# Altium integrated library TI_Logic_Flip-Flop,Latch,Register.IntLib: 2598 symbols (part 6 of 122)
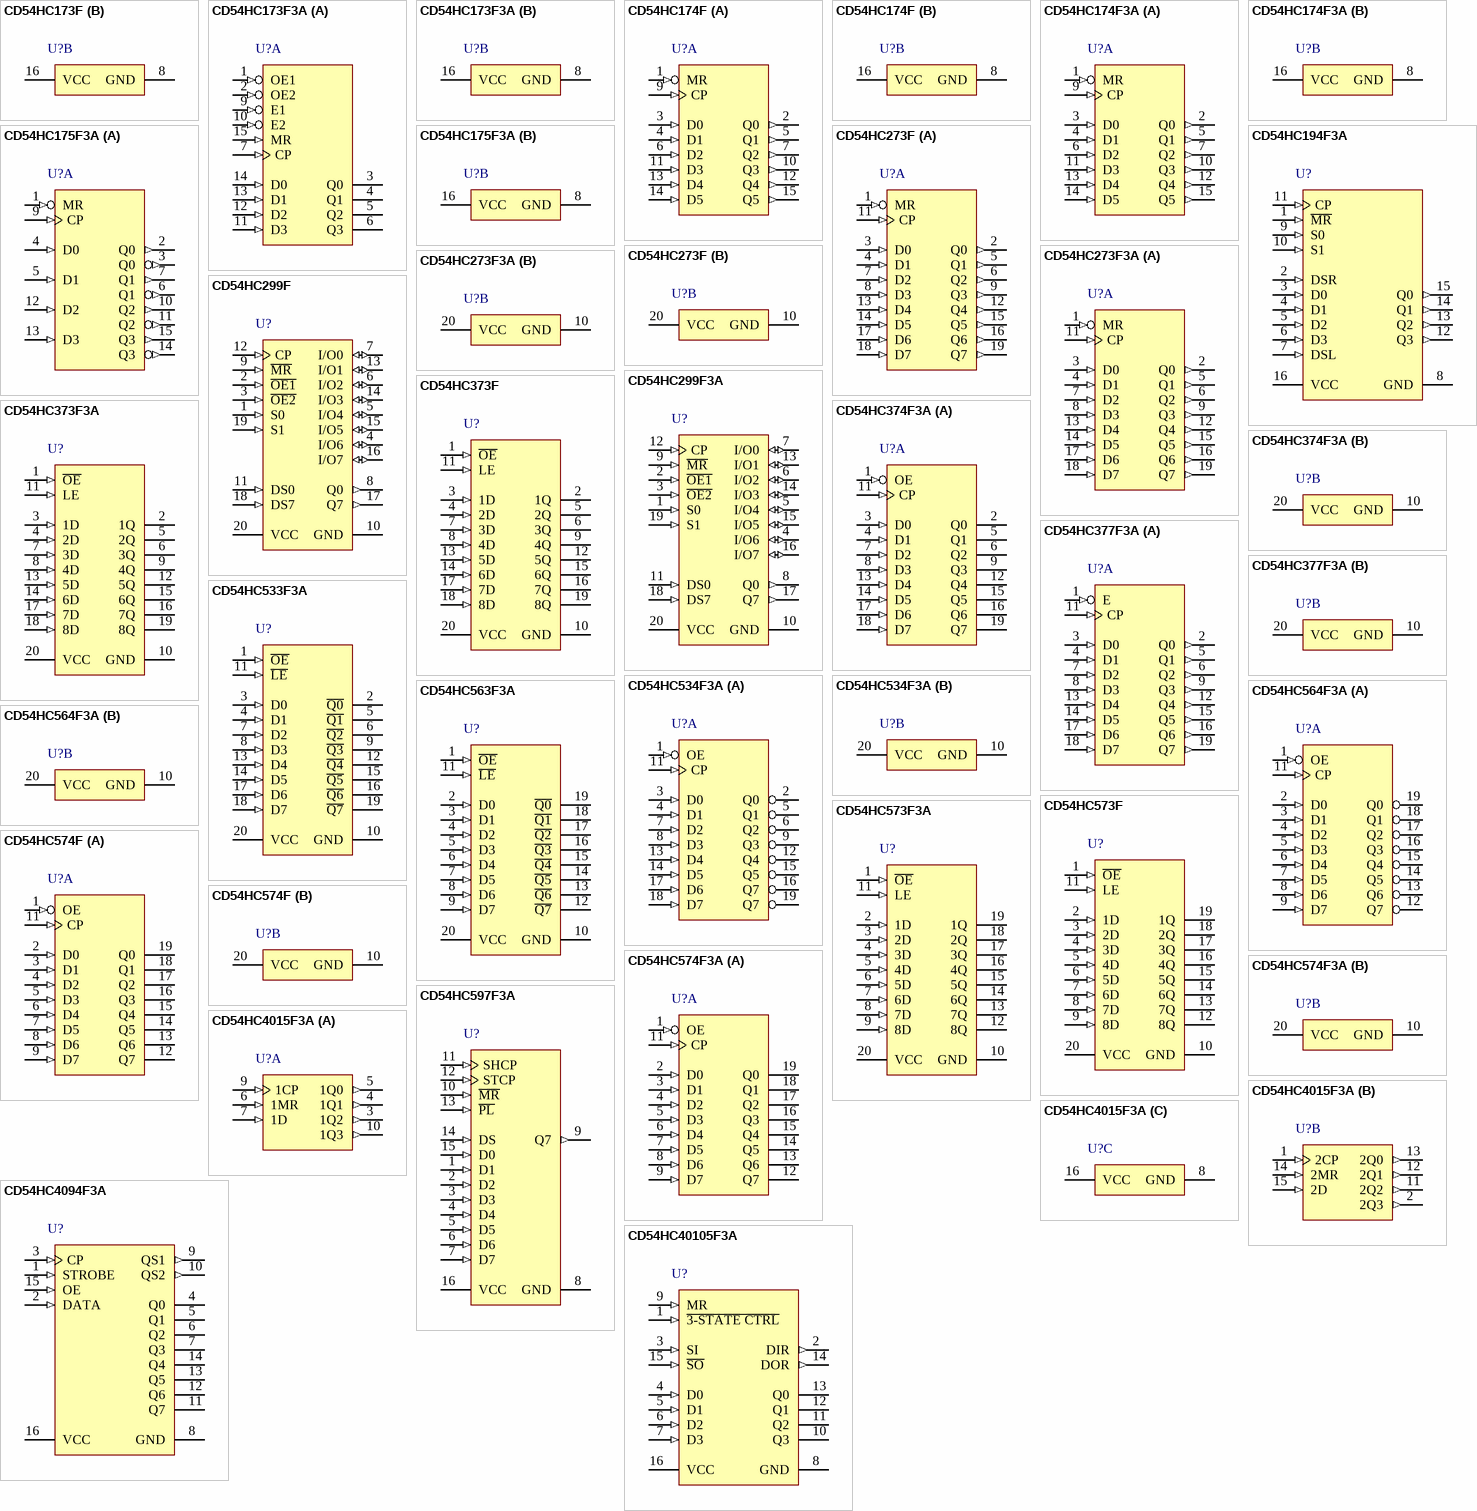
[diagram p144: symbols CD54HC173F to CD54HC40105F3A]

## CD54HC173F
designator U?
High Speed CMOS Logic Quad D-Type Flip-Flops with 3-State Outputs, J0016A, TUBE; Generic Part Number: CD54HC173; Manufacturer: Texas Instruments; PartNumber: CD54HC173F; VCC(Min)(V): 2; VCC(Max)(V): 6; ICC @ Nom Voltage(Max)(mA): 0.08; Bits(#): 4; F @ Nom Voltage(Max)(Mhz): 28; Rating: Military; Technology Family: HC; Schmitt Trigger: No; Output Drive (IOL/IOH)(Max)(mA): 7.8/-7.8; Output Logic: Non-inverted; 3-State Output: Yes; tpd @ Nom Voltage(Max)(ns): 43; DatasheetVersion: SCHS158E; PackageReference: J0016A; Output Type: CMOS; Input Type: CMOS; Operating Temperature Range(C): -55 to 125; ComponentLink1Description: Manufacturer URL; ComponentLink1URL: http://www.ti.com/; ComponentLink2Description: Datasheet; ComponentLink2URL: http://www.ti.com/lit/ds/symlink/cd54hc173.pdf; ComponentLink3Description: Package Specification; ComponentLink3URL: http://www.ti.com/lit/ml/mcer002d/mcer002d.pdf
footprint J0016A (DIP, 16-Leads, Body 21.35x7.2mm, Pitch 2.54mm)
part A pins: 1 OE1 (in), 2 OE2 (in), 3 Q0 (hiz), 4 Q1 (hiz), 5 Q2 (hiz), 6 Q3 (hiz), 7 CP (in), 9 E1 (in), 10 E2 (in), 11 D3 (in), 12 D2 (in), 13 D1 (in), 14 D0 (in), 15 MR (in)
part B pins: 8 GND (power), 16 VCC (power)

## CD54HC173F3A
designator U?
High Speed CMOS Logic Quad D-Type Flip-Flops with 3-State Outputs, J0016A, TUBE; Generic Part Number: CD54HC173; Manufacturer: Texas Instruments; PartNumber: CD54HC173F3A; VCC(Min)(V): 2; VCC(Max)(V): 6; ICC @ Nom Voltage(Max)(mA): 0.08; Bits(#): 4; F @ Nom Voltage(Max)(Mhz): 28; Rating: Military; Technology Family: HC; Schmitt Trigger: No; Output Drive (IOL/IOH)(Max)(mA): 7.8/-7.8; Output Logic: Non-inverted; 3-State Output: Yes; tpd @ Nom Voltage(Max)(ns): 43; DatasheetVersion: SCHS158E; PackageReference: J0016A; Output Type: CMOS; Input Type: CMOS; Operating Temperature Range(C): -55 to 125; ComponentLink1Description: Manufacturer URL; ComponentLink1URL: http://www.ti.com/; ComponentLink2Description: Datasheet; ComponentLink2URL: http://www.ti.com/lit/ds/symlink/cd54hc173.pdf; ComponentLink3Description: Package Specification; ComponentLink3URL: http://www.ti.com/lit/ml/mcer002d/mcer002d.pdf
footprint J0016A (DIP, 16-Leads, Body 21.35x7.2mm, Pitch 2.54mm)
part A pins: 1 OE1 (in), 2 OE2 (in), 3 Q0 (hiz), 4 Q1 (hiz), 5 Q2 (hiz), 6 Q3 (hiz), 7 CP (in), 9 E1 (in), 10 E2 (in), 11 D3 (in), 12 D2 (in), 13 D1 (in), 14 D0 (in), 15 MR (in)
part B pins: 8 GND (power), 16 VCC (power)

## CD54HC174F
designator U?
High Speed CMOS Logic Hex D-Type Flip-Flops with Reset, J0016A, TUBE; Generic Part Number: CD54HC174; Manufacturer: Texas Instruments; PartNumber: CD54HC174F; VCC(Min)(V): 2; VCC(Max)(V): 6; ICC @ Nom Voltage(Max)(mA): 0.08; F @ Nom Voltage(Max)(Mhz): 28; Rating: Military; Technology Family: HC; Schmitt Trigger: No; Output Drive (IOL/IOH)(Max)(mA): 5.2/-5.2; Output Logic: Non-inverted; tpd @ Nom Voltage(Max)(ns): 35; DatasheetVersion: SCHS159C; PackageReference: J0016A; Output Type: CMOS; Input Type: CMOS; Bits(#): 6; Operating Temperature Range(C): -55 to 125; 3-State Output: No; ComponentLink1Description: Manufacturer URL; ComponentLink1URL: http://www.ti.com/; ComponentLink2Description: Datasheet; ComponentLink2URL: http://www.ti.com/lit/ds/symlink/cd54hc174.pdf; ComponentLink3Description: Package Specification; ComponentLink3URL: http://www.ti.com/lit/ml/mcer002d/mcer002d.pdf
footprint J0016A (DIP, 16-Leads, Body 21.35x7.2mm, Pitch 2.54mm)
part A pins: 1 MR (in), 2 Q0 (out), 3 D0 (in), 4 D1 (in), 5 Q1 (out), 6 D2 (in), 7 Q2 (out), 9 CP (in), 10 Q3 (out), 11 D3 (in), 12 Q4 (out), 13 D4 (in), 14 D5 (in), 15 Q5 (out)
part B pins: 8 GND (power), 16 VCC (power)

## CD54HC174F3A
designator U?
High Speed CMOS Logic Hex D-Type Flip-Flops with Reset, J0016A, TUBE; Generic Part Number: CD54HC174; Manufacturer: Texas Instruments; PartNumber: CD54HC174F3A; VCC(Min)(V): 2; VCC(Max)(V): 6; ICC @ Nom Voltage(Max)(mA): 0.08; F @ Nom Voltage(Max)(Mhz): 28; Rating: Military; Technology Family: HC; Schmitt Trigger: No; Output Drive (IOL/IOH)(Max)(mA): 5.2/-5.2; Output Logic: Non-inverted; tpd @ Nom Voltage(Max)(ns): 35; DatasheetVersion: SCHS159C; PackageReference: J0016A; Output Type: CMOS; Input Type: CMOS; Bits(#): 6; Operating Temperature Range(C): -55 to 125; 3-State Output: No; ComponentLink1Description: Manufacturer URL; ComponentLink1URL: http://www.ti.com/; ComponentLink2Description: Datasheet; ComponentLink2URL: http://www.ti.com/lit/ds/symlink/cd54hc174.pdf; ComponentLink3Description: Package Specification; ComponentLink3URL: http://www.ti.com/lit/ml/mcer002d/mcer002d.pdf
footprint J0016A (DIP, 16-Leads, Body 21.35x7.2mm, Pitch 2.54mm)
part A pins: 1 MR (in), 2 Q0 (out), 3 D0 (in), 4 D1 (in), 5 Q1 (out), 6 D2 (in), 7 Q2 (out), 9 CP (in), 10 Q3 (out), 11 D3 (in), 12 Q4 (out), 13 D4 (in), 14 D5 (in), 15 Q5 (out)
part B pins: 8 GND (power), 16 VCC (power)

## CD54HC175F3A
designator U?
High Speed CMOS Logic Quad D-Type Flip-Flops with Reset, J0016A, TUBE; Generic Part Number: CD54HC175; Manufacturer: Texas Instruments; PartNumber: CD54HC175F3A; VCC(Min)(V): 2; VCC(Max)(V): 6; ICC @ Nom Voltage(Max)(mA): 0.08; Bits(#): 4; F @ Nom Voltage(Max)(Mhz): 28; Rating: Military; Technology Family: HC; Schmitt Trigger: No; Output Drive (IOL/IOH)(Max)(mA): 5.2/-5.2; Output Logic: Inverted,Non-inverted; tpd @ Nom Voltage(Max)(ns): 37; DatasheetVersion: SCHS160C; PackageReference: J0016A; Output Type: CMOS; Input Type: CMOS; Operating Temperature Range(C): -55 to 125; 3-State Output: No; ComponentLink1Description: Manufacturer URL; ComponentLink1URL: http://www.ti.com/; ComponentLink2Description: Datasheet; ComponentLink2URL: http://www.ti.com/lit/ds/symlink/cd54hc175.pdf; ComponentLink3Description: Package Specification; ComponentLink3URL: http://www.ti.com/lit/ml/mcer002d/mcer002d.pdf
footprint J0016A (DIP, 16-Leads, Body 21.35x7.2mm, Pitch 2.54mm)
part A pins: 1 MR (in), 2 Q0 (out), 3 Q0 (out), 4 D0 (in), 5 D1 (in), 6 Q1 (out), 7 Q1 (out), 9 CP (in), 10 Q2 (out), 11 Q2 (out), 12 D2 (in), 13 D3 (in), 14 Q3 (out), 15 Q3 (out)
part B pins: 8 GND (power), 16 VCC (power)

## CD54HC194F3A
designator U?
High Speed CMOS Logic 4-Bit Bidirectional Universal Shift Register, J0016A, TUBE; Generic Part Number: CD54HC194; Manufacturer: Texas Instruments; PartNumber: CD54HC194F3A; Technology Family: HC; VCC(Min)(V): 2; VCC(Max)(V): 6; F @ Nom Voltage(Max)(Mhz): 28; ICC @ Nom Voltage(Max)(mA): 0.08; tpd @ Nom Voltage(Max)(ns): 37; Output Drive (IOL/IOH)(Max)(mA): 5.2/-5.2; 3-State Output: No; Rating: Military; DatasheetVersion: SCHS164G; PackageReference: J0016A; Voltage(Nom)(V): 6; Input Type: CMOS; Output Type: CMOS; Operating Temperature Range(C): -55 to 125; ComponentLink1Description: Manufacturer URL; ComponentLink1URL: http://www.ti.com/; ComponentLink2Description: Datasheet; ComponentLink2URL: http://www.ti.com/lit/ds/symlink/cd54hc194.pdf; ComponentLink3Description: Package Specification; ComponentLink3URL: http://www.ti.com/lit/ml/mcer002d/mcer002d.pdf
footprint J0016A (DIP, 16-Leads, Body 21.35x7.2mm, Pitch 2.54mm)
pins: 1 ~{MR} (in), 2 DSR (in), 3 D0 (in), 4 D1 (in), 5 D2 (in), 6 D3 (in), 7 DSL (in), 8 GND (power), 9 S0 (in), 10 S1 (in), 11 CP (in), 12 Q3 (out), 13 Q2 (out), 14 Q1 (out), 15 Q0 (out), 16 VCC (power)

## CD54HC273F
designator U?
High Speed CMOS Logic Octal D-Type Flip-Flops with Reset, J0020A, TUBE; Generic Part Number: CD54HC273; Manufacturer: Texas Instruments; PartNumber: CD54HC273F; VCC(Min)(V): 2; VCC(Max)(V): 6; ICC @ Nom Voltage(Max)(mA): 0.08; Bits(#): 8; F @ Nom Voltage(Max)(Mhz): 28; Rating: Military; Technology Family: HC; Schmitt Trigger: No; Output Drive (IOL/IOH)(Max)(mA): 5.2/-5.2; Output Logic: Non-inverted; tpd @ Nom Voltage(Max)(ns): 30; DatasheetVersion: SCHS174B; PackageReference: J0020A; Output Type: CMOS; Input Type: CMOS; Operating Temperature Range(C): -55 to 125; 3-State Output: No; ComponentLink1Description: Manufacturer URL; ComponentLink1URL: http://www.ti.com/; ComponentLink2Description: Datasheet; ComponentLink2URL: http://www.ti.com/lit/ds/symlink/cd54hc273.pdf; ComponentLink3Description: Package Specification; ComponentLink3URL: http://www.ti.com/lit/ml/mcer002d/mcer002d.pdf
footprint J0020A (DIP, 20-Leads, Body 26.9x7.2mm, Pitch 2.54mm)
part A pins: 1 MR (in), 2 Q0 (out), 3 D0 (in), 4 D1 (in), 5 Q1 (out), 6 Q2 (out), 7 D2 (in), 8 D3 (in), 9 Q3 (out), 11 CP (in), 12 Q4 (out), 13 D4 (in), 14 D5 (in), 15 Q5 (out), 16 Q6 (out), 17 D6 (in), 18 D7 (in), 19 Q7 (out)
part B pins: 10 GND (power), 20 VCC (power)

## CD54HC273F3A
designator U?
High Speed CMOS Logic Octal D-Type Flip-Flops with Reset, J0020A, TUBE; Generic Part Number: CD54HC273; Manufacturer: Texas Instruments; PartNumber: CD54HC273F3A; VCC(Min)(V): 2; VCC(Max)(V): 6; ICC @ Nom Voltage(Max)(mA): 0.08; Bits(#): 8; F @ Nom Voltage(Max)(Mhz): 28; Rating: Military; Technology Family: HC; Schmitt Trigger: No; Output Drive (IOL/IOH)(Max)(mA): 5.2/-5.2; Output Logic: Non-inverted; tpd @ Nom Voltage(Max)(ns): 30; DatasheetVersion: SCHS174B; PackageReference: J0020A; Output Type: CMOS; Input Type: CMOS; Operating Temperature Range(C): -55 to 125; 3-State Output: No; ComponentLink1Description: Manufacturer URL; ComponentLink1URL: http://www.ti.com/; ComponentLink2Description: Datasheet; ComponentLink2URL: http://www.ti.com/lit/ds/symlink/cd54hc273.pdf; ComponentLink3Description: Package Specification; ComponentLink3URL: http://www.ti.com/lit/ml/mcer002d/mcer002d.pdf
footprint J0020A (DIP, 20-Leads, Body 26.9x7.2mm, Pitch 2.54mm)
part A pins: 1 MR (in), 2 Q0 (out), 3 D0 (in), 4 D1 (in), 5 Q1 (out), 6 Q2 (out), 7 D2 (in), 8 D3 (in), 9 Q3 (out), 11 CP (in), 12 Q4 (out), 13 D4 (in), 14 D5 (in), 15 Q5 (out), 16 Q6 (out), 17 D6 (in), 18 D7 (in), 19 Q7 (out)
part B pins: 10 GND (power), 20 VCC (power)

## CD54HC299F
designator U?
High Speed CMOS Logic 8-Bit Universal Shift Register with 3-State Outputs, J0020A, TUBE; Generic Part Number: CD54HC299; Manufacturer: Texas Instruments; PartNumber: CD54HC299F; Technology Family: HC; VCC(Min)(V): 2; VCC(Max)(V): 6; F @ Nom Voltage(Max)(Mhz): 28; ICC @ Nom Voltage(Max)(mA): 0.08; tpd @ Nom Voltage(Max)(ns): 43; Output Drive (IOL/IOH)(Max)(mA): 5.2/-5.2; 3-State Output: No; Rating: Military; DatasheetVersion: SCHS178C; PackageReference: J0020A; Voltage(Nom)(V): 6; Input Type: CMOS; Output Type: CMOS; Operating Temperature Range(C): -55 to 125; ComponentLink1Description: Manufacturer URL; ComponentLink1URL: http://www.ti.com/; ComponentLink2Description: Datasheet; ComponentLink2URL: http://www.ti.com/lit/ds/symlink/cd54hc299.pdf; ComponentLink3Description: Package Specification; ComponentLink3URL: http://www.ti.com/lit/ml/mcer002d/mcer002d.pdf
footprint J0020A (DIP, 20-Leads, Body 26.9x7.2mm, Pitch 2.54mm)
pins: 1 S0 (in), 2 ~{OE1} (in), 3 ~{OE2} (in), 4 I/O6 (io), 5 I/O4 (io), 6 I/O2 (io), 7 I/O0 (io), 8 Q0 (out), 9 ~{MR} (in), 10 GND (power), 11 DS0 (in), 12 CP (in), 13 I/O1 (io), 14 I/O3 (io), 15 I/O5 (io), 16 I/O7 (io), 17 Q7 (out), 18 DS7 (in), 19 S1 (in), 20 VCC (power)

## CD54HC299F3A
designator U?
High Speed CMOS Logic 8-Bit Universal Shift Register with 3-State Outputs, J0020A, TUBE; Generic Part Number: CD54HC299; Manufacturer: Texas Instruments; PartNumber: CD54HC299F3A; Technology Family: HC; VCC(Min)(V): 2; VCC(Max)(V): 6; F @ Nom Voltage(Max)(Mhz): 28; ICC @ Nom Voltage(Max)(mA): 0.08; tpd @ Nom Voltage(Max)(ns): 43; Output Drive (IOL/IOH)(Max)(mA): 5.2/-5.2; 3-State Output: No; Rating: Military; DatasheetVersion: SCHS178C; PackageReference: J0020A; Voltage(Nom)(V): 6; Input Type: CMOS; Output Type: CMOS; Operating Temperature Range(C): -55 to 125; ComponentLink1Description: Manufacturer URL; ComponentLink1URL: http://www.ti.com/; ComponentLink2Description: Datasheet; ComponentLink2URL: http://www.ti.com/lit/ds/symlink/cd54hc299.pdf; ComponentLink3Description: Package Specification; ComponentLink3URL: http://www.ti.com/lit/ml/mcer002d/mcer002d.pdf
footprint J0020A (DIP, 20-Leads, Body 26.9x7.2mm, Pitch 2.54mm)
pins: 1 S0 (in), 2 ~{OE1} (in), 3 ~{OE2} (in), 4 I/O6 (io), 5 I/O4 (io), 6 I/O2 (io), 7 I/O0 (io), 8 Q0 (out), 9 ~{MR} (in), 10 GND (power), 11 DS0 (in), 12 CP (in), 13 I/O1 (io), 14 I/O3 (io), 15 I/O5 (io), 16 I/O7 (io), 17 Q7 (out), 18 DS7 (in), 19 S1 (in), 20 VCC (power)

## CD54HC373F
designator U?
High Speed CMOS Logic Octal Transparent Latches with 3-State Output, J0020A, TUBE; Generic Part Number: CD54HC373; Manufacturer: Texas Instruments; PartNumber: CD54HC373F; VCC(Min)(V): 2; VCC(Max)(V): 6; ICC @ Nom Voltage(Max)(mA): 0.08; Bits(#): 8; F @ Nom Voltage(Max)(Mhz): 28; Rating: Military; Technology Family: HC; Schmitt Trigger: No; Output Drive (IOL/IOH)(Max)(mA): 7.8/-7.8; Output Logic: Non-inverted; 3-State Output: Yes; tpd @ Nom Voltage(Max)(ns): 32; DatasheetVersion: SCLS452A; PackageReference: J0020A; Output Type: CMOS; Input Type: CMOS; Operating Temperature Range(C): -55 to 125; ComponentLink1Description: Manufacturer URL; ComponentLink1URL: http://www.ti.com/; ComponentLink2Description: Datasheet; ComponentLink2URL: http://www.ti.com/lit/ds/symlink/cd54hc373.pdf; ComponentLink3Description: Package Specification; ComponentLink3URL: http://www.ti.com/lit/ml/mcer002d/mcer002d.pdf
footprint J0020A (DIP, 20-Leads, Body 26.9x7.2mm, Pitch 2.54mm)
pins: 1 ~{OE} (in) "Output Enable", 2 1Q (hiz) "1Q Output", 3 1D (in) "1D Input", 4 2D (in) "2D Input", 5 2Q (hiz) "2Q Output", 6 3Q (hiz) "3Q Output", 7 3D (in) "3D Input", 8 4D (in) "4D Input", 9 4Q (hiz) "4Q Output", 10 GND (power) "Ground Pin", 11 LE (in) "Latch Enable", 12 5Q (hiz) "5Q Output", 13 5D (in) "5D Input", 14 6D (in) "6D Input", 15 6Q (hiz) "6Q Output", 16 7Q (hiz) "7Q Output", 17 7D (in) "7D Input", 18 8D (in) "8D Input", 19 8Q (hiz) "8Q Output", 20 VCC (power) "Power Pin"

## CD54HC373F3A
designator U?
High Speed CMOS Logic Octal Transparent Latches with 3-State Output, J0020A, TUBE; Generic Part Number: CD54HC373; Manufacturer: Texas Instruments; PartNumber: CD54HC373F3A; VCC(Min)(V): 2; VCC(Max)(V): 6; ICC @ Nom Voltage(Max)(mA): 0.08; Bits(#): 8; F @ Nom Voltage(Max)(Mhz): 28; Rating: Military; Technology Family: HC; Schmitt Trigger: No; Output Drive (IOL/IOH)(Max)(mA): 7.8/-7.8; Output Logic: Non-inverted; 3-State Output: Yes; tpd @ Nom Voltage(Max)(ns): 32; DatasheetVersion: SCLS452A; PackageReference: J0020A; Output Type: CMOS; Input Type: CMOS; Operating Temperature Range(C): -55 to 125; ComponentLink1Description: Manufacturer URL; ComponentLink1URL: http://www.ti.com/; ComponentLink2Description: Datasheet; ComponentLink2URL: http://www.ti.com/lit/ds/symlink/cd54hc373.pdf; ComponentLink3Description: Package Specification; ComponentLink3URL: http://www.ti.com/lit/ml/mcer002d/mcer002d.pdf
footprint J0020A (DIP, 20-Leads, Body 26.9x7.2mm, Pitch 2.54mm)
pins: 1 ~{OE} (in) "Output Enable", 2 1Q (hiz) "1Q Output", 3 1D (in) "1D Input", 4 2D (in) "2D Input", 5 2Q (hiz) "2Q Output", 6 3Q (hiz) "3Q Output", 7 3D (in) "3D Input", 8 4D (in) "4D Input", 9 4Q (hiz) "4Q Output", 10 GND (power) "Ground Pin", 11 LE (in) "Latch Enable", 12 5Q (hiz) "5Q Output", 13 5D (in) "5D Input", 14 6D (in) "6D Input", 15 6Q (hiz) "6Q Output", 16 7Q (hiz) "7Q Output", 17 7D (in) "7D Input", 18 8D (in) "8D Input", 19 8Q (hiz) "8Q Output", 20 VCC (power) "Power Pin"

## CD54HC374F3A
designator U?
High Speed CMOS Logic Octal Positive-Edge Triggered D-Type Flip-Flops with 3-State Output, J0020A, TUBE; Generic Part Number: CD54HC374; Manufacturer: Texas Instruments; PartNumber: CD54HC374F3A; VCC(Min)(V): 2; VCC(Max)(V): 6; ICC @ Nom Voltage(Max)(mA): 0.08; Bits(#): 8; F @ Nom Voltage(Max)(Mhz): 28; Rating: Military; Technology Family: HC; Schmitt Trigger: No; Output Drive (IOL/IOH)(Max)(mA): 7.8/-7.8; Output Logic: Non-inverted; 3-State Output: Yes; tpd @ Nom Voltage(Max)(ns): 38; DatasheetVersion: SCHS183C; PackageReference: J0020A; Output Type: CMOS; Input Type: CMOS; Operating Temperature Range(C): -55 to 125; ComponentLink1Description: Manufacturer URL; ComponentLink1URL: http://www.ti.com/; ComponentLink2Description: Datasheet; ComponentLink2URL: http://www.ti.com/lit/ds/symlink/cd54hc374.pdf; ComponentLink3Description: Package Specification; ComponentLink3URL: http://www.ti.com/lit/ml/mcer002d/mcer002d.pdf
footprint J0020A (DIP, 20-Leads, Body 26.9x7.2mm, Pitch 2.54mm)
part A pins: 1 OE (in), 2 Q0 (hiz), 3 D0 (in), 4 D1 (in), 5 Q1 (hiz), 6 Q2 (hiz), 7 D2 (in), 8 D3 (in), 9 Q3 (hiz), 11 CP (in), 12 Q4 (hiz), 13 D4 (in), 14 D5 (in), 15 Q5 (hiz), 16 Q6 (hiz), 17 D6 (in), 18 D7 (in), 19 Q7 (hiz)
part B pins: 10 GND (power), 20 VCC (power)

## CD54HC377F3A
designator U?
High Speed CMOS Logic Octal D-Type Flip-Flops with Data Enable, J0020A, TUBE; Generic Part Number: CD54HC377; Manufacturer: Texas Instruments; PartNumber: CD54HC377F3A; VCC(Min)(V): 2; VCC(Max)(V): 6; ICC @ Nom Voltage(Max)(mA): 0.08; Bits(#): 8; F @ Nom Voltage(Max)(Mhz): 28; Rating: Military; Technology Family: HC; Schmitt Trigger: No; Output Drive (IOL/IOH)(Max)(mA): 5.2/-5.2; Output Logic: Non-inverted; tpd @ Nom Voltage(Max)(ns): 37; DatasheetVersion: SCHS184C; PackageReference: J0020A; Output Type: CMOS; Input Type: CMOS; Operating Temperature Range(C): -55 to 125; 3-State Output: No; ComponentLink1Description: Manufacturer URL; ComponentLink1URL: http://www.ti.com/; ComponentLink2Description: Datasheet; ComponentLink2URL: http://www.ti.com/lit/ds/symlink/cd54hc377.pdf; ComponentLink3Description: Package Specification; ComponentLink3URL: http://www.ti.com/lit/ml/mcer002d/mcer002d.pdf
footprint J0020A (DIP, 20-Leads, Body 26.9x7.2mm, Pitch 2.54mm)
part A pins: 1 E (in), 2 Q0 (out), 3 D0 (in), 4 D1 (in), 5 Q1 (out), 6 Q2 (out), 7 D2 (in), 8 D3 (in), 9 Q3 (out), 11 CP (in), 12 Q4 (out), 13 D4 (in), 14 D5 (in), 15 Q5 (out), 16 Q6 (out), 17 D6 (in), 18 D7 (in), 19 Q7 (out)
part B pins: 10 GND (power), 20 VCC (power)

## CD54HC533F3A
designator U?
High Speed CMOS Logic Octal InvertingTransparent Latch with 3-State Outputs, J0020A, TUBE; Generic Part Number: CD54HC533; Manufacturer: Texas Instruments; PartNumber: CD54HC533F3A; VCC(Min)(V): 2; VCC(Max)(V): 6; ICC @ Nom Voltage(Max)(mA): 0.08; Bits(#): 8; F @ Nom Voltage(Max)(Mhz): 28; Rating: Military; Technology Family: HC; Schmitt Trigger: No; Output Drive (IOL/IOH)(Max)(mA): 7.8/-7.8; Output Logic: Inverted; 3-State Output: Yes; tpd @ Nom Voltage(Max)(ns): 35; DatasheetVersion: SCHS187C; PackageReference: J0020A; Output Type: CMOS; Input Type: CMOS; Operating Temperature Range(C): -55 to 125; ComponentLink1Description: Manufacturer URL; ComponentLink1URL: http://www.ti.com/; ComponentLink2Description: Datasheet; ComponentLink2URL: http://www.ti.com/lit/ds/symlink/cd54hc533.pdf; ComponentLink3Description: Package Specification; ComponentLink3URL: http://www.ti.com/lit/ml/mcer002d/mcer002d.pdf
footprint J0020A (DIP, 20-Leads, Body 26.9x7.2mm, Pitch 2.54mm)
pins: 1 ~{OE} (in), 2 ~{Q0} (hiz), 3 D0 (in), 4 D1 (in), 5 ~{Q1} (hiz), 6 ~{Q2} (hiz), 7 D2 (in), 8 D3 (in), 9 ~{Q3} (hiz), 10 GND (power), 11 ~{LE} (in), 12 ~{Q4} (hiz), 13 D4 (in), 14 D5 (in), 15 ~{Q5} (hiz), 16 ~{Q6} (hiz), 17 D6 (in), 18 D7 (in), 19 ~{Q7} (hiz), 20 VCC (power)

## CD54HC534F3A
designator U?
High Speed CMOS Logic Octal D-Type Positive-Edge Triggered Inverting Flip-Flops with 3-State Outputs, J0020A, TUBE; Generic Part Number: CD54HC534; Manufacturer: Texas Instruments; PartNumber: CD54HC534F3A; VCC(Min)(V): 2; VCC(Max)(V): 6; ICC @ Nom Voltage(Max)(mA): 0.08; Bits(#): 8; F @ Nom Voltage(Max)(Mhz): 28; Rating: Military; Technology Family: HC; Schmitt Trigger: No; Output Drive (IOL/IOH)(Max)(mA): 7.8/-7.8; Output Logic: Inverted; 3-State Output: Yes; tpd @ Nom Voltage(Max)(ns): 35; DatasheetVersion: SCHS188C; PackageReference: J0020A; Output Type: CMOS; Input Type: CMOS; Operating Temperature Range(C): -55 to 125; ComponentLink1Description: Manufacturer URL; ComponentLink1URL: http://www.ti.com/; ComponentLink2Description: Datasheet; ComponentLink2URL: http://www.ti.com/lit/ds/symlink/cd54hc534.pdf; ComponentLink3Description: Package Specification; ComponentLink3URL: http://www.ti.com/lit/ml/mcer002d/mcer002d.pdf
footprint J0020A (DIP, 20-Leads, Body 26.9x7.2mm, Pitch 2.54mm)
part A pins: 1 OE (in), 2 Q0 (hiz), 3 D0 (in), 4 D1 (in), 5 Q1 (hiz), 6 Q2 (hiz), 7 D2 (in), 8 D3 (in), 9 Q3 (hiz), 11 CP (in), 12 Q4 (hiz), 13 D4 (in), 14 D5 (in), 15 Q5 (hiz), 16 Q7 (hiz), 17 D6 (in), 18 D7 (in), 19 Q7 (hiz)
part B pins: 10 GND (power), 20 VCC (power)

## CD54HC563F3A
designator U?
High Speed CMOS Logic Octal Inverting Transparent Latch with 3-State Outputs, J0020A, TUBE; Generic Part Number: CD54HC563; Manufacturer: Texas Instruments; PartNumber: CD54HC563F3A; VCC(Min)(V): 2; VCC(Max)(V): 6; ICC @ Nom Voltage(Max)(mA): 0.08; Bits(#): 8; F @ Nom Voltage(Max)(Mhz): 28; Rating: Military; Technology Family: HC; Schmitt Trigger: No; Output Drive (IOL/IOH)(Max)(mA): 7.8/-7.8; Output Logic: Inverted; 3-State Output: Yes; tpd @ Nom Voltage(Max)(ns): 37; DatasheetVersion: SCHS187C; PackageReference: J0020A; Output Type: CMOS; Input Type: CMOS; Operating Temperature Range(C): -55 to 125; ComponentLink1Description: Manufacturer URL; ComponentLink1URL: http://www.ti.com/; ComponentLink2Description: Datasheet; ComponentLink2URL: http://www.ti.com/lit/ds/symlink/cd54hc563.pdf; ComponentLink3Description: Package Specification; ComponentLink3URL: http://www.ti.com/lit/ml/mcer002d/mcer002d.pdf
footprint J0020A (DIP, 20-Leads, Body 26.9x7.2mm, Pitch 2.54mm)
pins: 1 ~{OE} (in), 2 D0 (in), 3 D1 (in), 4 D2 (in), 5 D3 (in), 6 D4 (in), 7 D5 (in), 8 D6 (in), 9 D7 (in), 10 GND (power), 11 ~{LE} (in), 12 ~{Q7} (hiz), 13 ~{Q6} (hiz), 14 ~{Q5} (hiz), 15 ~{Q4} (hiz), 16 ~{Q3} (hiz), 17 ~{Q2} (hiz), 18 ~{Q1} (hiz), 19 ~{Q0} (hiz), 20 VCC (power)

## CD54HC564F3A
designator U?
High Speed CMOS Logic Octal D-Type Positive-Edge Triggered Inverting Flip-Flops with 3-State Outputs, J0020A, TUBE; Generic Part Number: CD54HC564; Manufacturer: Texas Instruments; PartNumber: CD54HC564F3A; VCC(Min)(V): 2; VCC(Max)(V): 6; ICC @ Nom Voltage(Max)(mA): 0.08; Bits(#): 8; F @ Nom Voltage(Max)(Mhz): 28; Rating: Military; Technology Family: HC; Schmitt Trigger: No; Output Drive (IOL/IOH)(Max)(mA): 7.8/-7.8; Output Logic: Inverted; 3-State Output: Yes; tpd @ Nom Voltage(Max)(ns): 35; DatasheetVersion: SCHS188C; PackageReference: J0020A; Output Type: CMOS; Input Type: CMOS; Operating Temperature Range(C): -55 to 125; ComponentLink1Description: Manufacturer URL; ComponentLink1URL: http://www.ti.com/; ComponentLink2Description: Datasheet; ComponentLink2URL: http://www.ti.com/lit/ds/symlink/cd54hc564.pdf; ComponentLink3Description: Package Specification; ComponentLink3URL: http://www.ti.com/lit/ml/mcer002d/mcer002d.pdf
footprint J0020A (DIP, 20-Leads, Body 26.9x7.2mm, Pitch 2.54mm)
part A pins: 1 OE (in), 2 D0 (in), 3 D1 (in), 4 D2 (in), 5 D3 (in), 6 D4 (in), 7 D5 (in), 8 D6 (in), 9 D7 (in), 11 CP (in), 12 Q7 (hiz), 13 Q6 (hiz), 14 Q5 (hiz), 15 Q4 (hiz), 16 Q3 (hiz), 17 Q2 (hiz), 18 Q1 (hiz), 19 Q0 (hiz)
part B pins: 10 GND (power), 20 VCC (power)

## CD54HC573F
designator U?
High Speed CMOS Logic Octal Transparent Latch with 3-State Output, J0020A, TUBE; Generic Part Number: CD54HC573; Manufacturer: Texas Instruments; PartNumber: CD54HC573F; VCC(Min)(V): 2; VCC(Max)(V): 6; ICC @ Nom Voltage(Max)(mA): 0.08; Bits(#): 8; F @ Nom Voltage(Max)(Mhz): 28; Rating: Military; Technology Family: HC; Schmitt Trigger: No; Output Drive (IOL/IOH)(Max)(mA): 7.8/-7.8; Output Logic: Inverted; 3-State Output: Yes; tpd @ Nom Voltage(Max)(ns): 37; DatasheetVersion: SCLS454A; PackageReference: J0020A; Output Type: CMOS; Input Type: CMOS; Operating Temperature Range(C): -55 to 125; ComponentLink1Description: Manufacturer URL; ComponentLink1URL: http://www.ti.com/; ComponentLink2Description: Datasheet; ComponentLink2URL: http://www.ti.com/lit/ds/symlink/cd54hc573.pdf; ComponentLink3Description: Package Specification; ComponentLink3URL: http://www.ti.com/lit/ml/mcer002d/mcer002d.pdf
footprint J0020A (DIP, 20-Leads, Body 26.9x7.2mm, Pitch 2.54mm)
pins: 1 ~{OE} (in), 2 1D (in), 3 2D (in), 4 3D (in), 5 4D (in), 6 5D (in), 7 6D (in), 8 7D (in), 9 8D (in), 10 GND (power), 11 LE (in), 12 8Q (hiz), 13 7Q (hiz), 14 6Q (hiz), 15 5Q (hiz), 16 4Q (hiz), 17 3Q (hiz), 18 2Q (hiz), 19 1Q (hiz), 20 VCC (power)

## CD54HC573F3A
designator U?
High Speed CMOS Logic Octal Transparent Latch with 3-State Output, J0020A, TUBE; Generic Part Number: CD54HC573; Manufacturer: Texas Instruments; PartNumber: CD54HC573F3A; VCC(Min)(V): 2; VCC(Max)(V): 6; ICC @ Nom Voltage(Max)(mA): 0.08; Bits(#): 8; F @ Nom Voltage(Max)(Mhz): 28; Rating: Military; Technology Family: HC; Schmitt Trigger: No; Output Drive (IOL/IOH)(Max)(mA): 7.8/-7.8; Output Logic: Inverted; 3-State Output: Yes; tpd @ Nom Voltage(Max)(ns): 37; DatasheetVersion: SCLS454A; PackageReference: J0020A; Output Type: CMOS; Input Type: CMOS; Operating Temperature Range(C): -55 to 125; ComponentLink1Description: Manufacturer URL; ComponentLink1URL: http://www.ti.com/; ComponentLink2Description: Datasheet; ComponentLink2URL: http://www.ti.com/lit/ds/symlink/cd54hc573.pdf; ComponentLink3Description: Package Specification; ComponentLink3URL: http://www.ti.com/lit/ml/mcer002d/mcer002d.pdf
footprint J0020A (DIP, 20-Leads, Body 26.9x7.2mm, Pitch 2.54mm)
pins: 1 ~{OE} (in), 2 1D (in), 3 2D (in), 4 3D (in), 5 4D (in), 6 5D (in), 7 6D (in), 8 7D (in), 9 8D (in), 10 GND (power), 11 LE (in), 12 8Q (hiz), 13 7Q (hiz), 14 6Q (hiz), 15 5Q (hiz), 16 4Q (hiz), 17 3Q (hiz), 18 2Q (hiz), 19 1Q (hiz), 20 VCC (power)

## CD54HC574F
designator U?
High Speed CMOS Logic Octal Positive-Edge Triggered D-Type Flip-Flops with 3-State Outputs, J0020A, TUBE; Generic Part Number: CD54HC574; Manufacturer: Texas Instruments; PartNumber: CD54HC574F; VCC(Min)(V): 2; VCC(Max)(V): 6; ICC @ Nom Voltage(Max)(mA): 0.08; Bits(#): 8; F @ Nom Voltage(Max)(Mhz): 28; Rating: Military; Technology Family: HC; Schmitt Trigger: No; Output Drive (IOL/IOH)(Max)(mA): 7.8/-7.8; Output Logic: Non-inverted; 3-State Output: Yes; tpd @ Nom Voltage(Max)(ns): 35; DatasheetVersion: SCHS183C; PackageReference: J0020A; Output Type: CMOS; Input Type: CMOS; Operating Temperature Range(C): -55 to 125; ComponentLink1Description: Manufacturer URL; ComponentLink1URL: http://www.ti.com/; ComponentLink2Description: Datasheet; ComponentLink2URL: http://www.ti.com/lit/ds/symlink/cd54hc574.pdf; ComponentLink3Description: Package Specification; ComponentLink3URL: http://www.ti.com/lit/ml/mcer002d/mcer002d.pdf
footprint J0020A (DIP, 20-Leads, Body 26.9x7.2mm, Pitch 2.54mm)
part A pins: 1 OE (in), 2 D0 (in), 3 D1 (in), 4 D2 (in), 5 D3 (in), 6 D4 (in), 7 D5 (in), 8 D6 (in), 9 D7 (in), 11 CP (in), 12 Q7 (hiz), 13 Q6 (hiz), 14 Q5 (hiz), 15 Q4 (hiz), 16 Q3 (hiz), 17 Q2 (hiz), 18 Q1 (hiz), 19 Q0 (hiz)
part B pins: 10 GND (power), 20 VCC (power)

## CD54HC574F3A
designator U?
High Speed CMOS Logic Octal Positive-Edge Triggered D-Type Flip-Flops with 3-State Outputs, J0020A, TUBE; Generic Part Number: CD54HC574; Manufacturer: Texas Instruments; PartNumber: CD54HC574F3A; VCC(Min)(V): 2; VCC(Max)(V): 6; ICC @ Nom Voltage(Max)(mA): 0.08; Bits(#): 8; F @ Nom Voltage(Max)(Mhz): 28; Rating: Military; Technology Family: HC; Schmitt Trigger: No; Output Drive (IOL/IOH)(Max)(mA): 7.8/-7.8; Output Logic: Non-inverted; 3-State Output: Yes; tpd @ Nom Voltage(Max)(ns): 35; DatasheetVersion: SCHS183C; PackageReference: J0020A; Output Type: CMOS; Input Type: CMOS; Operating Temperature Range(C): -55 to 125; ComponentLink1Description: Manufacturer URL; ComponentLink1URL: http://www.ti.com/; ComponentLink2Description: Datasheet; ComponentLink2URL: http://www.ti.com/lit/ds/symlink/cd54hc574.pdf; ComponentLink3Description: Package Specification; ComponentLink3URL: http://www.ti.com/lit/ml/mcer002d/mcer002d.pdf
footprint J0020A (DIP, 20-Leads, Body 26.9x7.2mm, Pitch 2.54mm)
part A pins: 1 OE (in), 2 D0 (in), 3 D1 (in), 4 D2 (in), 5 D3 (in), 6 D4 (in), 7 D5 (in), 8 D6 (in), 9 D7 (in), 11 CP (in), 12 Q7 (hiz), 13 Q6 (hiz), 14 Q5 (hiz), 15 Q4 (hiz), 16 Q3 (hiz), 17 Q2 (hiz), 18 Q1 (hiz), 19 Q0 (hiz)
part B pins: 10 GND (power), 20 VCC (power)

## CD54HC597F3A
designator U?
High Speed CMOS Logic 8-Bit Shift Register with Input Storage, J0016A, TUBE; Generic Part Number: CD54HC597; Manufacturer: Texas Instruments; PartNumber: CD54HC597F3A; Technology Family: HC; VCC(Min)(V): 2; VCC(Max)(V): 6; F @ Nom Voltage(Max)(Mhz): 28; ICC @ Nom Voltage(Max)(mA): 0.08; tpd @ Nom Voltage(Max)(ns): 37; Output Drive (IOL/IOH)(Max)(mA): 5.2/-5.2; 3-State Output: No; Rating: Military; DatasheetVersion: SCHS191C; PackageReference: J0016A; Voltage(Nom)(V): 6; Input Type: CMOS; Output Type: CMOS; Operating Temperature Range(C): -55 to 125; ComponentLink1Description: Manufacturer URL; ComponentLink1URL: http://www.ti.com/; ComponentLink2Description: Datasheet; ComponentLink2URL: http://www.ti.com/lit/ds/symlink/cd54hc597.pdf; ComponentLink3Description: Package Specification; ComponentLink3URL: http://www.ti.com/lit/ml/mcer002d/mcer002d.pdf
footprint J0016A (DIP, 16-Leads, Body 21.35x7.2mm, Pitch 2.54mm)
pins: 1 D1 (in), 2 D2 (in), 3 D3 (in), 4 D4 (in), 5 D5 (in), 6 D6 (in), 7 D7 (in), 8 GND (power), 9 Q7 (out), 10 ~{MR} (in), 11 SHCP (in), 12 STCP (in), 13 ~{PL} (in), 14 DS (in), 15 D0 (in), 16 VCC (power)

## CD54HC4015F3A
designator U?
High Speed CMOS Logic Dual 4-Stage Static Shift Register, J0016A, TUBE; Generic Part Number: CD54HC4015; Manufacturer: Texas Instruments; PartNumber: CD54HC4015F3A; Technology Family: HC; VCC(Min)(V): 2; VCC(Max)(V): 6; F @ Nom Voltage(Max)(Mhz): 28; ICC @ Nom Voltage(Max)(mA): 0.08; tpd @ Nom Voltage(Max)(ns): 37; Output Drive (IOL/IOH)(Max)(mA): 5.2/-5.2; 3-State Output: No; Rating: Military; DatasheetVersion: SCHS198C; PackageReference: J0016A; Voltage(Nom)(V): 6; Input Type: CMOS; Output Type: CMOS; Operating Temperature Range(C): -55 to 125; ComponentLink1Description: Manufacturer URL; ComponentLink1URL: http://www.ti.com/; ComponentLink2Description: Datasheet; ComponentLink2URL: http://www.ti.com/lit/ds/symlink/cd54hc4015.pdf; ComponentLink3Description: Package Specification; ComponentLink3URL: http://www.ti.com/lit/ml/mcer002d/mcer002d.pdf
footprint J0016A (DIP, 16-Leads, Body 21.35x7.2mm, Pitch 2.54mm)
part A pins: 3 1Q2 (out), 4 1Q1 (out), 5 1Q0 (out), 6 1MR (in), 7 1D (in), 9 1CP (in), 10 1Q3 (out)
part B pins: 1 2CP (in), 2 2Q3 (out), 11 2Q2 (out), 12 2Q1 (out), 13 2Q0 (out), 14 2MR (in), 15 2D (in)
part C pins: 8 GND (power), 16 VCC (power)

## CD54HC4094F3A
designator U?
High Speed CMOS Logic 8-Stage Shift-and-Store Bus Register with 3-Stage Outputs, J0016A, TUBE; Generic Part Number: CD54HC4094; Manufacturer: Texas Instruments; PartNumber: CD54HC4094F3A; Technology Family: HC; VCC(Min)(V): 2; VCC(Max)(V): 6; F @ Nom Voltage(Max)(Mhz): 28; ICC @ Nom Voltage(Max)(mA): 0.08; tpd @ Nom Voltage(Max)(ns): 33; Output Drive (IOL/IOH)(Max)(mA): 5.2/-5.2; 3-State Output: Yes; Rating: Military; DatasheetVersion: SCHS211E; PackageReference: J0016A; Voltage(Nom)(V): 6; Input Type: CMOS; Output Type: CMOS; Operating Temperature Range(C): -55 to 125; ComponentLink1Description: Manufacturer URL; ComponentLink1URL: http://www.ti.com/; ComponentLink2Description: Datasheet; ComponentLink2URL: http://www.ti.com/lit/ds/symlink/cd54hc4094.pdf; ComponentLink3Description: Package Specification; ComponentLink3URL: http://www.ti.com/lit/ml/mcer002d/mcer002d.pdf
footprint J0016A (DIP, 16-Leads, Body 21.35x7.2mm, Pitch 2.54mm)
pins: 1 STROBE (in), 2 DATA (in), 3 CP (in), 4 Q0 (hiz), 5 Q1 (hiz), 6 Q2 (hiz), 7 Q3 (hiz), 8 GND (power), 9 QS1 (out), 10 QS2 (out), 11 Q7 (hiz), 12 Q6 (hiz), 13 Q5 (hiz), 14 Q4 (hiz), 15 OE (in), 16 VCC (power)

## CD54HC40105F3A
designator U?
High Speed CMOS Logic 4-Bit by 16-Word FIFO Register, J0016A, TUBE; Generic Part Number: CD54HC40105; Manufacturer: Texas Instruments; PartNumber: CD54HC40105F3A; Voltage Nodes(V): 6, 5, 2; Rating: Military; DatasheetVersion: SCHS222C; PackageReference: J0016A; Operating Temperature Range(C): -55 to 125; ComponentLink1Description: Manufacturer URL; ComponentLink1URL: http://www.ti.com/; ComponentLink2Description: Datasheet; ComponentLink2URL: http://www.ti.com/lit/ds/symlink/cd54hc40105.pdf; ComponentLink3Description: Package Specification; ComponentLink3URL: http://www.ti.com/lit/ml/mcer002d/mcer002d.pdf
footprint J0016A (DIP, 16-Leads, Body 21.35x7.2mm, Pitch 2.54mm)
pins: 1 ~{3-STATE CTRL} (in), 2 DIR (out), 3 SI (in), 4 D0 (in), 5 D1 (in), 6 D2 (in), 7 D3 (in), 8 GND (power), 9 MR (in), 10 Q3 (hiz), 11 Q2 (hiz), 12 Q1 (hiz), 13 Q0 (hiz), 14 DOR (out), 15 ~{SO} (in), 16 VCC (power)

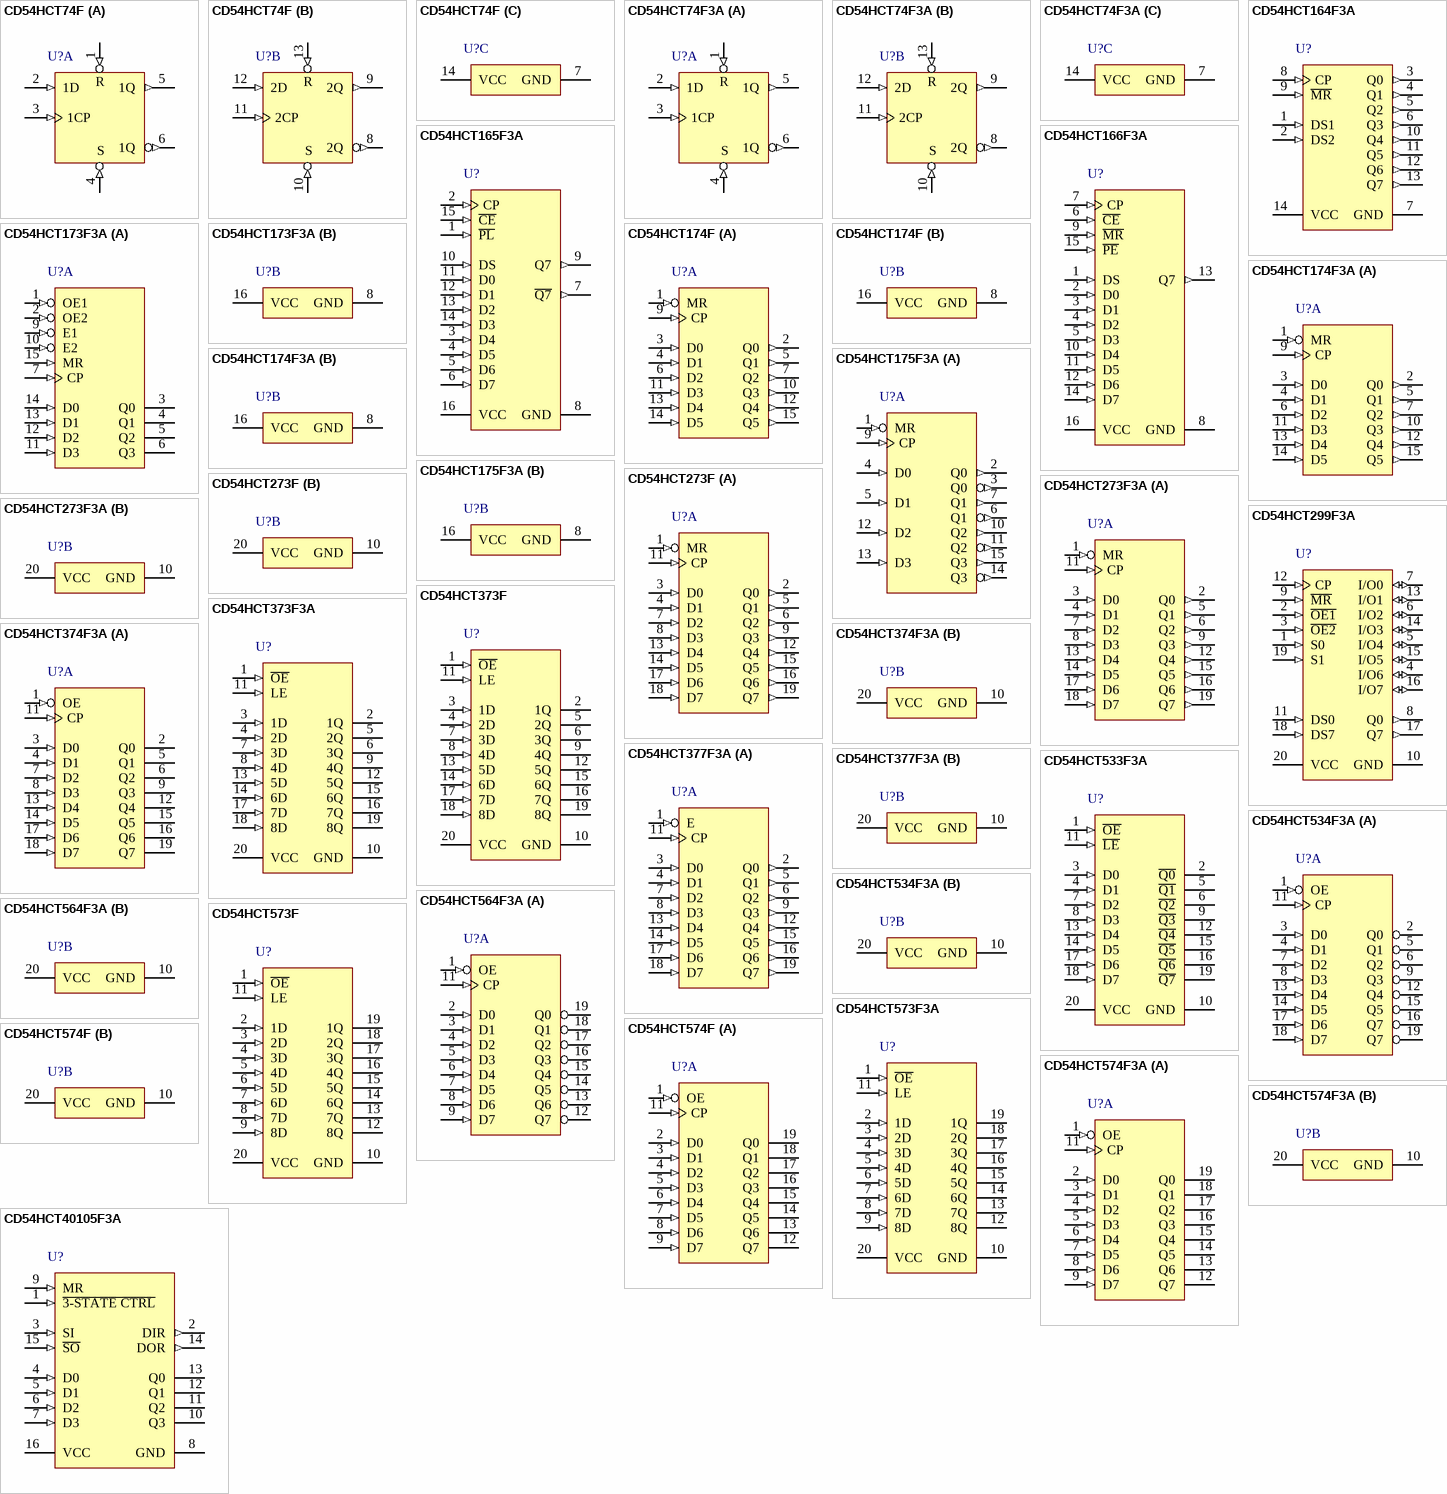
[diagram p9: symbols CD54HCT74F to CD54HCT40105F3A]

## CD54HCT74F
designator U?
High Speed CMOS Logic Dual Positive-Edge Trigger D Flip-Flops with Set and Reset, J0014A, TUBE; Generic Part Number: CD54HCT74; Manufacturer: Texas Instruments; PartNumber: CD54HCT74F; VCC(Min)(V): 4.5; VCC(Max)(V): 5.5; ICC @ Nom Voltage(Max)(mA): 0.04; Input Type: TTL; Bits(#): 2; F @ Nom Voltage(Max)(Mhz): 25; Rating: Military; Technology Family: HCT; Schmitt Trigger: No; Output Drive (IOL/IOH)(Max)(mA): 4/-4; Output Logic: Inverted,Non-inverted; tpd @ Nom Voltage(Max)(ns): 44; DatasheetVersion: SCHS124D; PackageReference: J0014A; Output Type: CMOS; Operating Temperature Range(C): -55 to 125; 3-State Output: No; ComponentLink1Description: Manufacturer URL; ComponentLink1URL: http://www.ti.com/; ComponentLink2Description: Datasheet; ComponentLink2URL: http://www.ti.com/lit/ds/symlink/cd54hct74.pdf; ComponentLink3Description: Package Specification; ComponentLink3URL: http://www.ti.com/lit/ml/mcer002d/mcer002d.pdf
footprint J0014A (DIP, 14-Leads, Body 19.95x7.2mm, Pitch 2.54mm)
part A pins: 1 1~{R} (in), 2 1D (in), 3 1CP (in), 4 1~{S} (in), 5 1Q (out), 6 1Q (out)
part B pins: 8 2Q (out), 9 2Q (out), 10 2~{S} (in), 11 2CP (in), 12 2D (in), 13 2~{R} (in)
part C pins: 7 GND (power), 14 VCC (power)
part A text: R; S
part B text: R; S

## CD54HCT74F3A
designator U?
High Speed CMOS Logic Dual Positive-Edge Trigger D Flip-Flops with Set and Reset, J0014A, TUBE; Generic Part Number: CD54HCT74; Manufacturer: Texas Instruments; PartNumber: CD54HCT74F3A; VCC(Min)(V): 4.5; VCC(Max)(V): 5.5; ICC @ Nom Voltage(Max)(mA): 0.04; Input Type: TTL; Bits(#): 2; F @ Nom Voltage(Max)(Mhz): 25; Rating: Military; Technology Family: HCT; Schmitt Trigger: No; Output Drive (IOL/IOH)(Max)(mA): 4/-4; Output Logic: Inverted,Non-inverted; tpd @ Nom Voltage(Max)(ns): 44; DatasheetVersion: SCHS124D; PackageReference: J0014A; Output Type: CMOS; Operating Temperature Range(C): -55 to 125; 3-State Output: No; ComponentLink1Description: Manufacturer URL; ComponentLink1URL: http://www.ti.com/; ComponentLink2Description: Datasheet; ComponentLink2URL: http://www.ti.com/lit/ds/symlink/cd54hct74.pdf; ComponentLink3Description: Package Specification; ComponentLink3URL: http://www.ti.com/lit/ml/mcer002d/mcer002d.pdf
footprint J0014A (DIP, 14-Leads, Body 19.95x7.2mm, Pitch 2.54mm)
part A pins: 1 1~{R} (in), 2 1D (in), 3 1CP (in), 4 1~{S} (in), 5 1Q (out), 6 1Q (out)
part B pins: 8 2Q (out), 9 2Q (out), 10 2~{S} (in), 11 2CP (in), 12 2D (in), 13 2~{R} (in)
part C pins: 7 GND (power), 14 VCC (power)
part A text: R; S
part B text: R; S

## CD54HCT164F3A
designator U?
High Speed CMOS Logic 8-Bit Serial-In/Parallel-Out Shift Register, J0014A, TUBE; Generic Part Number: CD54HCT164; Manufacturer: Texas Instruments; PartNumber: CD54HCT164F3A; Technology Family: HCT; VCC(Min)(V): 4.5; VCC(Max)(V): 5.5; F @ Nom Voltage(Max)(Mhz): 25; ICC @ Nom Voltage(Max)(mA): 0.08; tpd @ Nom Voltage(Max)(ns): 45; Output Drive (IOL/IOH)(Max)(mA): 4/-4; Input Type: TTL; 3-State Output: No; Rating: Military; DatasheetVersion: SCHS155C; PackageReference: J0014A; Voltage(Nom)(V): 4.5; Output Type: CMOS; Operating Temperature Range(C): -55 to 125; ComponentLink1Description: Manufacturer URL; ComponentLink1URL: http://www.ti.com/; ComponentLink2Description: Datasheet; ComponentLink2URL: http://www.ti.com/lit/ds/symlink/cd54hct164.pdf; ComponentLink3Description: Package Specification; ComponentLink3URL: http://www.ti.com/lit/ml/mcer002d/mcer002d.pdf
footprint J0014A (DIP, 14-Leads, Body 19.95x7.2mm, Pitch 2.54mm)
pins: 1 DS1 (in), 2 DS2 (in), 3 Q0 (out), 4 Q1 (out), 5 Q2 (out), 6 Q3 (out), 7 GND (power), 8 CP (in), 9 ~{MR} (in), 10 Q4 (out), 11 Q5 (out), 12 Q6 (out), 13 Q7 (out), 14 VCC (power)

## CD54HCT165F3A
designator U?
High Speed CMOS Logic 8-Bit Parallel-In/Serial-Out Shift Register, J0016A, TUBE; Generic Part Number: CD54HCT165; Manufacturer: Texas Instruments; PartNumber: CD54HCT165F3A; Technology Family: HCT; VCC(Min)(V): 4.5; VCC(Max)(V): 5.5; F @ Nom Voltage(Max)(Mhz): 25; ICC @ Nom Voltage(Max)(mA): 0.08; tpd @ Nom Voltage(Max)(ns): 50; Output Drive (IOL/IOH)(Max)(mA): 4/-4; Input Type: TTL; 3-State Output: No; Rating: Military; DatasheetVersion: SCHS156C; PackageReference: J0016A; Voltage(Nom)(V): 4.5; Output Type: CMOS; Operating Temperature Range(C): -55 to 125; ComponentLink1Description: Manufacturer URL; ComponentLink1URL: http://www.ti.com/; ComponentLink2Description: Datasheet; ComponentLink2URL: http://www.ti.com/lit/ds/symlink/cd54hct165.pdf; ComponentLink3Description: Package Specification; ComponentLink3URL: http://www.ti.com/lit/ml/mcer002d/mcer002d.pdf
footprint J0016A (DIP, 16-Leads, Body 21.35x7.2mm, Pitch 2.54mm)
pins: 1 ~{PL} (in), 2 CP (in), 3 D4 (in), 4 D5 (in), 5 D6 (in), 6 D7 (in), 7 ~{Q7} (out), 8 GND (power), 9 Q7 (out), 10 DS (in), 11 D0 (in), 12 D1 (in), 13 D2 (in), 14 D3 (in), 15 ~{CE} (in), 16 VCC (power)

## CD54HCT166F3A
designator U?
High Speed CMOS Logic 8-Bit Parallel-In/Serial-Out Shift Register, J0016A, TUBE; Generic Part Number: CD54HCT166; Manufacturer: Texas Instruments; PartNumber: CD54HCT166F3A; Technology Family: HCT; VCC(Min)(V): 4.5; VCC(Max)(V): 5.5; F @ Nom Voltage(Max)(Mhz): 25; ICC @ Nom Voltage(Max)(mA): 0.08; tpd @ Nom Voltage(Max)(ns): 50; Output Drive (IOL/IOH)(Max)(mA): 4/-4; Input Type: TTL; 3-State Output: No; Rating: Military; DatasheetVersion: SCHS157C; PackageReference: J0016A; Voltage(Nom)(V): 4.5; Output Type: CMOS; Operating Temperature Range(C): -55 to 125; ComponentLink1Description: Manufacturer URL; ComponentLink1URL: http://www.ti.com/; ComponentLink2Description: Datasheet; ComponentLink2URL: http://www.ti.com/lit/ds/symlink/cd54hct166.pdf; ComponentLink3Description: Package Specification; ComponentLink3URL: http://www.ti.com/lit/ml/mcer002d/mcer002d.pdf
footprint J0016A (DIP, 16-Leads, Body 21.35x7.2mm, Pitch 2.54mm)
pins: 1 DS (in), 2 D0 (in), 3 D1 (in), 4 D2 (in), 5 D3 (in), 6 ~{CE} (in), 7 CP (in), 8 GND (power), 9 ~{MR} (in), 10 D4 (in), 11 D5 (in), 12 D6 (in), 13 Q7 (out), 14 D7 (in), 15 ~{PE} (in), 16 VCC (power)

## CD54HCT173F3A
designator U?
High Speed CMOS Logic Quad D-Type Flip-Flops with 3-State Outputs, J0016A, TUBE; Generic Part Number: CD54HCT173; Manufacturer: Texas Instruments; PartNumber: CD54HCT173F3A; VCC(Min)(V): 4.5; VCC(Max)(V): 5.5; ICC @ Nom Voltage(Max)(mA): 0.08; Input Type: TTL; Bits(#): 4; F @ Nom Voltage(Max)(Mhz): 25; Rating: Military; Technology Family: HCT; Schmitt Trigger: No; Output Drive (IOL/IOH)(Max)(mA): 6/-6; Output Logic: Non-inverted; 3-State Output: Yes; tpd @ Nom Voltage(Max)(ns): 50; DatasheetVersion: SCHS158E; PackageReference: J0016A; Output Type: CMOS; Operating Temperature Range(C): -55 to 125; ComponentLink1Description: Manufacturer URL; ComponentLink1URL: http://www.ti.com/; ComponentLink2Description: Datasheet; ComponentLink2URL: http://www.ti.com/lit/ds/symlink/cd54hct173.pdf; ComponentLink3Description: Package Specification; ComponentLink3URL: http://www.ti.com/lit/ml/mcer002d/mcer002d.pdf
footprint J0016A (DIP, 16-Leads, Body 21.35x7.2mm, Pitch 2.54mm)
part A pins: 1 OE1 (in), 2 OE2 (in), 3 Q0 (hiz), 4 Q1 (hiz), 5 Q2 (hiz), 6 Q3 (hiz), 7 CP (in), 9 E1 (in), 10 E2 (in), 11 D3 (in), 12 D2 (in), 13 D1 (in), 14 D0 (in), 15 MR (in)
part B pins: 8 GND (power), 16 VCC (power)

## CD54HCT174F
designator U?
High Speed CMOS Logic Hex D-Type Flip-Flops with Reset, J0016A, TUBE; Generic Part Number: CD54HCT174; Manufacturer: Texas Instruments; PartNumber: CD54HCT174F; VCC(Min)(V): 4.5; VCC(Max)(V): 5.5; ICC @ Nom Voltage(Max)(mA): 0.08; Input Type: TTL; Bits(#): 6; F @ Nom Voltage(Max)(Mhz): 25; Rating: Military; Technology Family: HCT; Schmitt Trigger: No; Output Drive (IOL/IOH)(Max)(mA): 4/-4; Output Logic: Non-inverted; tpd @ Nom Voltage(Max)(ns): 50; DatasheetVersion: SCHS159C; PackageReference: J0016A; Output Type: CMOS; Operating Temperature Range(C): -55 to 125; 3-State Output: No; ComponentLink1Description: Manufacturer URL; ComponentLink1URL: http://www.ti.com/; ComponentLink2Description: Datasheet; ComponentLink2URL: http://www.ti.com/lit/ds/symlink/cd54hct174.pdf; ComponentLink3Description: Package Specification; ComponentLink3URL: http://www.ti.com/lit/ml/mcer002d/mcer002d.pdf
footprint J0016A (DIP, 16-Leads, Body 21.35x7.2mm, Pitch 2.54mm)
part A pins: 1 MR (in), 2 Q0 (out), 3 D0 (in), 4 D1 (in), 5 Q1 (out), 6 D2 (in), 7 Q2 (out), 9 CP (in), 10 Q3 (out), 11 D3 (in), 12 Q4 (out), 13 D4 (in), 14 D5 (in), 15 Q5 (out)
part B pins: 8 GND (power), 16 VCC (power)

## CD54HCT174F3A
designator U?
High Speed CMOS Logic Hex D-Type Flip-Flops with Reset, J0016A, TUBE; Generic Part Number: CD54HCT174; Manufacturer: Texas Instruments; PartNumber: CD54HCT174F3A; VCC(Min)(V): 4.5; VCC(Max)(V): 5.5; ICC @ Nom Voltage(Max)(mA): 0.08; Input Type: TTL; Bits(#): 6; F @ Nom Voltage(Max)(Mhz): 25; Rating: Military; Technology Family: HCT; Schmitt Trigger: No; Output Drive (IOL/IOH)(Max)(mA): 4/-4; Output Logic: Non-inverted; tpd @ Nom Voltage(Max)(ns): 50; DatasheetVersion: SCHS159C; PackageReference: J0016A; Output Type: CMOS; Operating Temperature Range(C): -55 to 125; 3-State Output: No; ComponentLink1Description: Manufacturer URL; ComponentLink1URL: http://www.ti.com/; ComponentLink2Description: Datasheet; ComponentLink2URL: http://www.ti.com/lit/ds/symlink/cd54hct174.pdf; ComponentLink3Description: Package Specification; ComponentLink3URL: http://www.ti.com/lit/ml/mcer002d/mcer002d.pdf
footprint J0016A (DIP, 16-Leads, Body 21.35x7.2mm, Pitch 2.54mm)
part A pins: 1 MR (in), 2 Q0 (out), 3 D0 (in), 4 D1 (in), 5 Q1 (out), 6 D2 (in), 7 Q2 (out), 9 CP (in), 10 Q3 (out), 11 D3 (in), 12 Q4 (out), 13 D4 (in), 14 D5 (in), 15 Q5 (out)
part B pins: 8 GND (power), 16 VCC (power)

## CD54HCT175F3A
designator U?
High Speed CMOS Logic Quad D-Type Flip-Flops with Reset, J0016A, TUBE; Generic Part Number: CD54HCT175; Manufacturer: Texas Instruments; PartNumber: CD54HCT175F3A; VCC(Min)(V): 4.5; VCC(Max)(V): 5.5; ICC @ Nom Voltage(Max)(mA): 0.08; Input Type: TTL; Bits(#): 4; F @ Nom Voltage(Max)(Mhz): 25; Rating: Military; Technology Family: HCT; Schmitt Trigger: No; Output Drive (IOL/IOH)(Max)(mA): 4/-4; Output Logic: Inverted,Non-inverted; tpd @ Nom Voltage(Max)(ns): 41; DatasheetVersion: SCHS160C; PackageReference: J0016A; Output Type: CMOS; Operating Temperature Range(C): -55 to 125; 3-State Output: No; ComponentLink1Description: Manufacturer URL; ComponentLink1URL: http://www.ti.com/; ComponentLink2Description: Datasheet; ComponentLink2URL: http://www.ti.com/lit/ds/symlink/cd54hct175.pdf; ComponentLink3Description: Package Specification; ComponentLink3URL: http://www.ti.com/lit/ml/mcer002d/mcer002d.pdf
footprint J0016A (DIP, 16-Leads, Body 21.35x7.2mm, Pitch 2.54mm)
part A pins: 1 MR (in), 2 Q0 (out), 3 Q0 (out), 4 D0 (in), 5 D1 (in), 6 Q1 (out), 7 Q1 (out), 9 CP (in), 10 Q2 (out), 11 Q2 (out), 12 D2 (in), 13 D3 (in), 14 Q3 (out), 15 Q3 (out)
part B pins: 8 GND (power), 16 VCC (power)

## CD54HCT273F
designator U?
High Speed CMOS Logic Octal D-Type Flip-Flops with Reset, J0020A, TUBE; Generic Part Number: CD54HCT273; Manufacturer: Texas Instruments; PartNumber: CD54HCT273F; VCC(Min)(V): 4.5; VCC(Max)(V): 5.5; ICC @ Nom Voltage(Max)(mA): 0.08; Input Type: TTL; Bits(#): 8; F @ Nom Voltage(Max)(Mhz): 25; Rating: Military; Technology Family: HCT; Schmitt Trigger: No; Output Drive (IOL/IOH)(Max)(mA): 4/-4; Output Logic: Non-inverted; tpd @ Nom Voltage(Max)(ns): 38; DatasheetVersion: SCHS174B; PackageReference: J0020A; Output Type: CMOS; Operating Temperature Range(C): -55 to 125; 3-State Output: No; ComponentLink1Description: Manufacturer URL; ComponentLink1URL: http://www.ti.com/; ComponentLink2Description: Datasheet; ComponentLink2URL: http://www.ti.com/lit/ds/symlink/cd54hct273.pdf; ComponentLink3Description: Package Specification; ComponentLink3URL: http://www.ti.com/lit/ml/mcer002d/mcer002d.pdf
footprint J0020A (DIP, 20-Leads, Body 26.9x7.2mm, Pitch 2.54mm)
part A pins: 1 MR (in), 2 Q0 (out), 3 D0 (in), 4 D1 (in), 5 Q1 (out), 6 Q2 (out), 7 D2 (in), 8 D3 (in), 9 Q3 (out), 11 CP (in), 12 Q4 (out), 13 D4 (in), 14 D5 (in), 15 Q5 (out), 16 Q6 (out), 17 D6 (in), 18 D7 (in), 19 Q7 (out)
part B pins: 10 GND (power), 20 VCC (power)

## CD54HCT273F3A
designator U?
High Speed CMOS Logic Octal D-Type Flip-Flops with Reset, J0020A, TUBE; Generic Part Number: CD54HCT273; Manufacturer: Texas Instruments; PartNumber: CD54HCT273F3A; VCC(Min)(V): 4.5; VCC(Max)(V): 5.5; ICC @ Nom Voltage(Max)(mA): 0.08; Input Type: TTL; Bits(#): 8; F @ Nom Voltage(Max)(Mhz): 25; Rating: Military; Technology Family: HCT; Schmitt Trigger: No; Output Drive (IOL/IOH)(Max)(mA): 4/-4; Output Logic: Non-inverted; tpd @ Nom Voltage(Max)(ns): 38; DatasheetVersion: SCHS174B; PackageReference: J0020A; Output Type: CMOS; Operating Temperature Range(C): -55 to 125; 3-State Output: No; ComponentLink1Description: Manufacturer URL; ComponentLink1URL: http://www.ti.com/; ComponentLink2Description: Datasheet; ComponentLink2URL: http://www.ti.com/lit/ds/symlink/cd54hct273.pdf; ComponentLink3Description: Package Specification; ComponentLink3URL: http://www.ti.com/lit/ml/mcer002d/mcer002d.pdf
footprint J0020A (DIP, 20-Leads, Body 26.9x7.2mm, Pitch 2.54mm)
part A pins: 1 MR (in), 2 Q0 (out), 3 D0 (in), 4 D1 (in), 5 Q1 (out), 6 Q2 (out), 7 D2 (in), 8 D3 (in), 9 Q3 (out), 11 CP (in), 12 Q4 (out), 13 D4 (in), 14 D5 (in), 15 Q5 (out), 16 Q6 (out), 17 D6 (in), 18 D7 (in), 19 Q7 (out)
part B pins: 10 GND (power), 20 VCC (power)

## CD54HCT299F3A
designator U?
High Speed CMOS Logic 8-Bit Universal Shift Register with 3-State Outputs, J0020A, TUBE; Generic Part Number: CD54HCT299; Manufacturer: Texas Instruments; PartNumber: CD54HCT299F3A; Technology Family: HCT; VCC(Min)(V): 4.5; VCC(Max)(V): 5.5; F @ Nom Voltage(Max)(Mhz): 25; ICC @ Nom Voltage(Max)(mA): 0.08; tpd @ Nom Voltage(Max)(ns): 56; Output Drive (IOL/IOH)(Max)(mA): 4/-4; Input Type: TTL; 3-State Output: Yes; Rating: Military; DatasheetVersion: SCHS178C; PackageReference: J0020A; Voltage(Nom)(V): 4.5; Output Type: CMOS; Operating Temperature Range(C): -55 to 125; ComponentLink1Description: Manufacturer URL; ComponentLink1URL: http://www.ti.com/; ComponentLink2Description: Datasheet; ComponentLink2URL: http://www.ti.com/lit/ds/symlink/cd54hct299.pdf; ComponentLink3Description: Package Specification; ComponentLink3URL: http://www.ti.com/lit/ml/mcer002d/mcer002d.pdf
footprint J0020A (DIP, 20-Leads, Body 26.9x7.2mm, Pitch 2.54mm)
pins: 1 S0 (in), 2 ~{OE1} (in), 3 ~{OE2} (in), 4 I/O6 (io), 5 I/O4 (io), 6 I/O2 (io), 7 I/O0 (io), 8 Q0 (out), 9 ~{MR} (in), 10 GND (power), 11 DS0 (in), 12 CP (in), 13 I/O1 (io), 14 I/O3 (io), 15 I/O5 (io), 16 I/O7 (io), 17 Q7 (out), 18 DS7 (in), 19 S1 (in), 20 VCC (power)

## CD54HCT373F
designator U?
High Speed CMOS Logic Octal Transparent Latches with 3-State Output, J0020A, TUBE; Generic Part Number: CD54HCT373; Manufacturer: Texas Instruments; PartNumber: CD54HCT373F; VCC(Min)(V): 4.5; VCC(Max)(V): 5.5; ICC @ Nom Voltage(Max)(mA): 0.08; Input Type: TTL; Bits(#): 8; F @ Nom Voltage(Max)(Mhz): 25; Rating: Military; Technology Family: HCT; Schmitt Trigger: No; Output Drive (IOL/IOH)(Max)(mA): 6/-6; Output Logic: Non-inverted; 3-State Output: Yes; tpd @ Nom Voltage(Max)(ns): 40; DatasheetVersion: SCLS453B; PackageReference: J0020A; Output Type: CMOS; Operating Temperature Range(C): -55 to 125; ComponentLink1Description: Manufacturer URL; ComponentLink1URL: http://www.ti.com/; ComponentLink2Description: Datasheet; ComponentLink2URL: http://www.ti.com/lit/ds/symlink/cd54hct373.pdf; ComponentLink3Description: Package Specification; ComponentLink3URL: http://www.ti.com/lit/ml/mcer002d/mcer002d.pdf
footprint J0020A (DIP, 20-Leads, Body 26.9x7.2mm, Pitch 2.54mm)
pins: 1 ~{OE} (in) "Output Enable", 2 1Q (hiz) "1Q Output", 3 1D (in) "1D Input", 4 2D (in) "2D Input", 5 2Q (hiz) "2Q Output", 6 3Q (hiz) "3Q Output", 7 3D (in) "3D Input", 8 4D (in) "4D Input", 9 4Q (hiz) "4Q Output", 10 GND (power) "Ground Pin", 11 LE (in) "Latch Enable", 12 5Q (hiz) "5Q Output", 13 5D (in) "5D Input", 14 6D (in) "6D Input", 15 6Q (hiz) "6Q Output", 16 7Q (hiz) "7Q Output", 17 7D (in) "7D Input", 18 8D (in) "8D Input", 19 8Q (hiz) "8Q Output", 20 VCC (power) "Power Pin"